# Altium footprint library QFN.PcbLib: 46 footprints (part 1 of 3)
Each footprint in its own frame and in the unit in brackets; x right, y up, seen from the top. Pads: shape width x height; smd on the part's side, far side on the other; paste and mask are expansions set on the pad; w line width, h text height; cw(c..) or ccw(c..) is an arc to the next point about the centre after c.
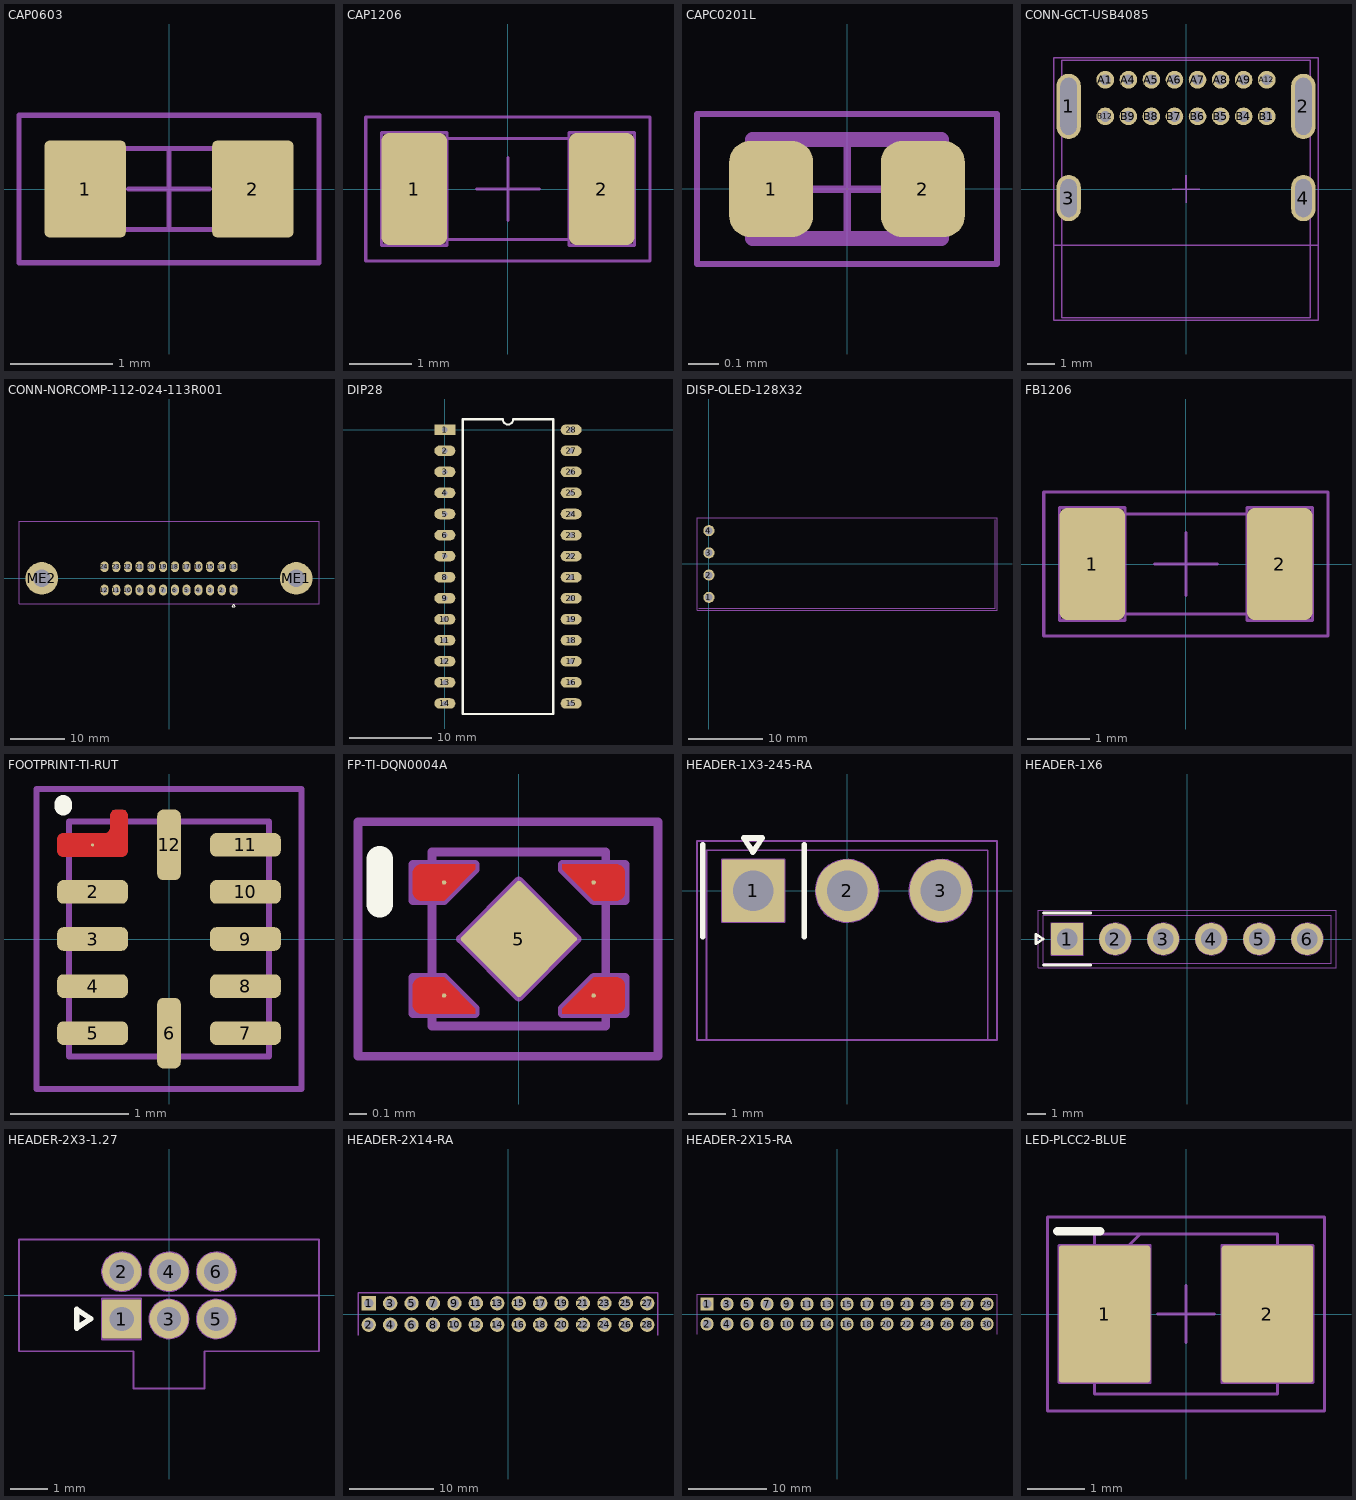
[diagram p0: the footprints below, top view; thin cyan lines are the x and y axes]

## CAP0603 [mm] "Chip Capacitor, 2-Leads, Body 1.60x0.80mm, IPC Medium Density"
height 0.8
pads (2):
  rrect12% 0.8x0.95 smd mask+0.05: 1(-0.825,0) 2(0.825,0)
Top Courtyard:
  lines w0.05: -0.4,0 0.4,0 ; 0,-0.4 0,0.4 ; -1.475,-0.725 -1.475,0.725 1.475,0.725 1.475,-0.725 -1.475,-0.725
Top Assembly:
  lines w0.05: -0.8,-0.4 -0.8,0.4 0.8,0.4 0.8,-0.4 -0.8,-0.4
3D body "CAPCP1608X08N.step": height 0.8, standoff 0, extent -0.8,-0.4 0.8,0.4

## CAP1206 [mm] "CAPACITOR, CHIP 1206 (3216) 0.85MM THICK"
height 0.86
pads (2):
  rrect25% 1.05x1.8 smd paste+0 mask+0.075: 1(-1.5,0) 2(1.5,0)
Top Courtyard:
  lines w0.05: -0.5,0 0,0 ; 0,-0.5 0,0 ; 0,0.5 0,0 ; 0.5,0 0,0 ; -2.275,-1.15 2.275,-1.15 2.275,1.15 -2.275,1.15 -2.275,-1.15
Top Assembly:
  lines w0.05: -2.025,-0.9 -0.975,-0.9 -0.975,0.9 -2.025,0.9 -2.025,-0.9 ; -1.61,-0.81 1.61,-0.81 1.61,0.81 -1.61,0.81 -1.61,-0.81 ; 0.975,-0.9 2.025,-0.9 2.025,0.9 0.975,0.9 0.975,-0.9
3D body "MLCC capacitor 1206 - 0.85mm .STEP": height 0.86, standoff -0.01, extent -1.61,-0.81 1.61,0.81

## CAPC0201L [mm]
height 0.55
pads (2):
  rrect50% 0.28x0.32 smd mask+0.05: 1(-0.253,0) 2(0.253,0)
Top Courtyard:
  lines w0.02: -0.5,-0.25 -0.5,0.25 0.5,0.25 0.5,-0.25 -0.5,-0.25
  lines w0.025: -0.165,0 0.165,0 ; 0,-0.165 0,0.165
Top Assembly:
  lines w0.05: -0.315,-0.165 0.315,-0.165 0.315,0.165 -0.315,0.165 -0.315,-0.165
3D body "CAPC0603X03L.step": height 0.33, standoff 0, extent -0.315,-0.165 0.315,0.165

## CONN-GCT-USB4085 [mm]
pads (20):
  rrect100% 0.9x2.4 hole 2.1 slot 0.6 at 0 deg paste-2539.97 mask+0: 1(-4.325,3.045) 2(4.325,3.045)
  rrect100% 0.9x1.7 hole 1.4 slot 0.6 at 0 deg paste-2539.97 mask+0: 3(-4.325,-0.335) 4(4.325,-0.335)
  round 0.65 hole 0.4 paste-2539.97 mask+0: A1(-2.975,4.025) A4(-2.125,4.025) A5(-1.275,4.025) A6(-0.425,4.025) A7(0.425,4.025) A8(1.275,4.025) A9(2.125,4.025) A12(2.975,4.025) B1(2.975,2.675) B4(2.125,2.675) B5(1.275,2.675) B6(0.425,2.675) B7(-0.425,2.675) B8(-1.275,2.675) B9(-2.125,2.675) B12(-2.975,2.675)
Top Courtyard:
  lines w0.05: -0.491,-0.009 0.009,-0.009 0.009,-0.509 ; 0,0.5 0,0 0.5,0 ; -4.875,-4.835 4.875,-4.835 4.875,4.835 -4.875,4.835 -4.875,-4.835
Bottom Courtyard:
  lines w0.05: -4.875,-4.835 4.875,-4.835 4.875,4.835 -4.875,4.835 -4.875,-4.835
Top Assembly:
  lines w0.05: -4.875,-2.075 4.875,-2.075 ; -4.575,-4.735 4.575,-4.735 4.575,4.735 -4.575,4.735 -4.575,-4.735
Mechanical 16:
  lines w0.05: -0.5,0 0.5,0 ; 0,-0.5 0,0.5
3D body "Conn_GCT_USB4085-GF-A_eec.STEP": height 0.25, standoff 0, extent -4.875,-4.835 4.875,4.835

## CONN-NORCOMP-112-024-113R001 [mm] "GPIB MALE RA"
pads (26):
  oval 1.5x2 hole 1 paste-2539.97 mask+0.05: 1(11.874,-2.146) 2(9.716,-2.146) 3(7.556,-2.146) 4(5.397,-2.146) 5(3.238,-2.146) 6(1.079,-2.146) 7(-1.079,-2.146) 8(-3.238,-2.146) 9(-5.397,-2.146) 10(-7.556,-2.146) 11(-9.716,-2.146) 12(-11.874,-2.146) 13(11.874,2.146) 14(9.716,2.146) 15(7.556,2.146) 16(5.397,2.146) 17(3.238,2.146) 18(1.079,2.146) 19(-1.079,2.146) 20(-3.238,2.146) 21(-5.397,2.146) 22(-7.556,2.146) 23(-9.716,2.146) 24(-11.874,2.146)
  round 6 hole 3.2 paste-2539.97 mask+0.254: ME1(23.406,0) ME2(-23.406,0)
Top Overlay:
  lines w0.15: 11.625,-5.25 12.125,-5.25 11.875,-4.75 11.625,-5.25
Top Courtyard:
  lines w0.05: -27.6,-4.65 27.6,-4.65 27.6,10.541 -27.6,10.541 -27.6,-4.65
  text "BOARD EDGE" at -4.29,9.26 h1
3D body "112-024-113R001.STEP": height 15.61, standoff -4.49, extent -27.356,-4.4 27.344,20

## DIP28 [mm]
pads (28):
  rect 2.54x1.27 hole 0.635: 1(0,0)
  oval 2.54x1.27 hole 0.635: 2(0,-2.54) 3(0,-5.08) 4(0,-7.62) 5(0,-10.16) 6(0,-12.7) 7(0,-15.24) 8(0,-17.78) 9(0,-20.32) 10(0,-22.86) 11(0,-25.4) 12(0,-27.94) 13(0,-30.48) 14(0,-33.02) 15(15.24,-33.02) 16(15.24,-30.48) 17(15.24,-27.94) 18(15.24,-25.4) 19(15.24,-22.86) 20(15.24,-20.32) 21(15.24,-17.78) 22(15.24,-15.24) 23(15.24,-12.7) 24(15.24,-10.16) 25(15.24,-7.62) 26(15.24,-5.08) 27(15.24,-2.54) 28(15.24,0)
Top Overlay:
  lines w0.254: 2.159,-34.29 13.081,-34.29 13.081,1.27 8.255,1.27 cw(c7.62,1.27) 6.985,1.27 2.159,1.27 2.159,-34.29

## DISP-OLED-128X32 [mm]
pads (4):
  round 1.5 hole 1 mask+0.05: 1(0,-4.5) 2(0,-1.5) 3(0,1.5) 4(0,4.5)
Top Courtyard:
  lines w0.05: -1.605,-6.253 38.895,-6.253 38.895,6.247 -1.605,6.247 -1.605,-6.253
Top Assembly:
  lines w0.05: 38.638,-6 -1.362,-6 38.638,-6 ; 38.638,-6 38.638,6 38.638,-6
3D body "User Library-OLED 32x 128.STEP": height 5.46, standoff -3.5, extent -1.362,-6 38.638,6

## FB1206 [mm] "FERRITE BEAD, CHIP 1206 (3216)"
height 1.3
pads (2):
  rrect25% 1.05x1.8 smd paste+0 mask+0.075: 1(-1.5,0) 2(1.5,0)
Top Courtyard:
  lines w0.05: -0.5,0 0,0 ; 0,-0.5 0,0 ; 0,0.5 0,0 ; 0.5,0 0,0 ; -2.275,-1.15 -2.275,1.15 2.275,1.15 2.275,-1.15 -2.275,-1.15
Top Assembly:
  lines w0.05: -2.025,-0.9 -2.025,0.9 -0.975,0.9 -0.975,-0.9 -2.025,-0.9 ; -1.6,-0.8 -1.6,0.8 1.6,0.8 1.6,-0.8 -1.6,-0.8 ; 0.975,-0.9 0.975,0.9 2.025,0.9 2.025,-0.9 0.975,-0.9
3D body "Chip Inductor 3216.STEP": height 1.3, standoff 0, extent -1.6,-0.8 1.6,0.8

## FOOTPRINT-TI-RUT [mm] "R-PUQFN-N12, TI RUT"
pads (12):
  round 0.025 smd paste+0 mask+0.05: 1(-0.65,0.8)
  rrect50% 0.6x0.2 smd paste+0 mask+0.05: 2(-0.65,0.4) 3(-0.65,0) 4(-0.65,-0.4) 5(-0.65,-0.8) 7(0.65,-0.8) 8(0.65,-0.4) 9(0.65,0) 10(0.65,0.4) 11(0.65,0.8)
  rrect50% 0.2x0.6 smd paste+0 mask+0.05: 6(0,-0.8) 12(0,0.8)
Top Layer:
  region: -0.9,0.9 -0.91,0.9 -0.928,0.892 -0.942,0.878 -0.95,0.86 -0.95,0.85 -0.95,0.75 -0.95,0.74 -0.942,0.722 -0.929,0.708 -0.91,0.7 -0.9,0.7 -0.4,0.7 -0.39,0.7 -0.372,0.708 -0.358,0.722 -0.35,0.74 -0.35,0.75 -0.35,1.05 -0.35,1.06 -0.358,1.078 -0.372,1.092 -0.39,1.1 -0.4,1.1 -0.45,1.1 -0.46,1.1 -0.478,1.092 -0.492,1.078 -0.5,1.06 -0.5,1.05 -0.5,0.95 -0.501,0.94 -0.508,0.922 -0.522,0.908 -0.54,0.901 -0.55,0.9
Top Overlay:
  lines w0.15: -0.9,1.125 -0.9,1.15
Top Paste:
  region: -0.35,0.901 -0.501,0.901 -0.501,1.05 -0.35,1.05
  region: 0.1,-1.051 -0.1,-1.051 -0.1,-0.55 0.1,-0.55
  region: 0.9,-0.901 0.4,-0.901 0.4,-0.7 0.9,-0.7
  region: 0.9,-0.5 0.4,-0.5 0.4,-0.3 0.9,-0.3
  region: 0.9,-0.1 0.401,-0.1 0.401,0.1 0.9,0.1
  region: 0.9,0.3 0.4,0.3 0.4,0.5 0.9,0.5
  region: 0.9,0.701 0.4,0.701 0.4,0.9 0.9,0.9
  region: 0.1,0.55 -0.1,0.55 -0.1,1.05 0.1,1.05
  region: -0.4,-0.9 -0.9,-0.9 -0.9,-0.7 -0.4,-0.7
  region: -0.4,-0.5 -0.901,-0.5 -0.901,-0.3 -0.4,-0.3
  region: -0.4,-0.1 -0.9,-0.1 -0.9,0.1 -0.4,0.1
  region: -0.4,0.3 -0.901,0.3 -0.901,0.5 -0.4,0.5
  region: -0.4,0.7 -0.9,0.7 -0.9,0.9 -0.4,0.9
Top Courtyard:
  lines w0.05: -1.125,-1.275 1.125,-1.275 1.125,1.275 -1.125,1.275 -1.125,-1.275
Top Assembly:
  lines w0.05: -0.85,-1 0.85,-1 0.85,1 -0.85,1 -0.85,-1
3D body "step_temp.STEP": height 0.55, standoff 0, extent -0.85,-1 0.85,1

## FP-TI-DQN0004A [mm] "FOOTPRINT, TI, DQN0004A X2SON4"
height 1.1
pads (5):
  round 0.025 smd mask+0.05: 1(-0.43,0.325) 2(-0.43,-0.325) 3(0.43,-0.325) 4(0.43,0.325)
  rrect4% 0.48x0.48 smd rot 45 mask+0.05: 5(0,0)
Top Layer:
  region: 0.43,-0.22 0.25,-0.4 0.25,-0.43 0.559,-0.43 0.569,-0.43 0.588,-0.422 0.602,-0.408 0.61,-0.389 0.61,-0.379 0.61,-0.271 0.61,-0.261 0.602,-0.242 0.588,-0.228 0.569,-0.22 0.559,-0.22 0.52,-0.22
  region: -0.43,-0.22 -0.25,-0.4 -0.25,-0.43 -0.559,-0.43 -0.569,-0.43 -0.588,-0.422 -0.602,-0.408 -0.61,-0.389 -0.61,-0.379 -0.61,-0.271 -0.61,-0.261 -0.602,-0.242 -0.588,-0.228 -0.569,-0.22 -0.559,-0.22 -0.52,-0.22
  region: -0.43,0.22 -0.25,0.4 -0.25,0.43 -0.559,0.43 -0.569,0.43 -0.588,0.422 -0.602,0.408 -0.61,0.389 -0.61,0.379 -0.61,0.271 -0.61,0.261 -0.602,0.242 -0.588,0.228 -0.569,0.22 -0.559,0.22 -0.52,0.22
  region: 0.43,0.22 0.25,0.4 0.25,0.43 0.559,0.43 0.569,0.43 0.588,0.422 0.602,0.408 0.61,0.389 0.61,0.379 0.61,0.271 0.61,0.261 0.602,0.242 0.588,0.228 0.569,0.22 0.559,0.22 0.52,0.22
Top Overlay:
  lines w0.15: -0.8,0.2 -0.8,0.46
Top Courtyard:
  lines w0.05: -0.925,-0.675 0.8,-0.675 0.8,0.675 -0.925,0.675 -0.925,-0.675
Top Assembly:
  region: -0.25,0.43 -0.43,0.43 -0.43,0.22 -0.25,0.4
  lines w0.05: -0.559,0.43 -0.5,0.43 -0.5,0.5 0.5,0.5 0.5,-0.5 -0.5,-0.5 -0.5,0.22 -0.43,0.22 ; -0.43,0.22 -0.61,0.22 -0.61,0.43 -0.25,0.43 -0.25,0.4 -0.43,0.22 ; -0.61,-0.43 -0.61,-0.22 -0.43,-0.22 -0.25,-0.4 -0.25,-0.43 -0.61,-0.43 ; -0.335,0 0,-0.335 0.335,0 0,0.335 -0.335,0 ; 0.25,-0.43 0.61,-0.43 0.61,-0.22 0.43,-0.22 0.25,-0.4 0.25,-0.43 ; 0.25,0.4 0.43,0.22 0.61,0.22 0.61,0.43 0.25,0.43 0.25,0.4
  text "1" at -0.61,0.225 h0.3
3D body: height 0.4, standoff 0, extent -0.5,-0.5 0.5,0.5

## HEADER-1X3-245-RA [mm]
pads (3):
  rrect5% 1.7x1.7 hole 1.1 mask+0.05: 1(-2.54,0)
  round 1.7 hole 1.1 mask+0.05: 2(0,0) 3(2.54,0)
Top Overlay:
  lines w0.15: -3.915,-1.25 -3.915,0 -3.915,1.25 ; -1.165,-1.25 -1.165,0 -1.165,1.25 ; -2.8,1.43 -2.55,1.05 -2.3,1.43 -2.8,1.43
Top Courtyard:
  lines w0.05: -4.065,-4.04 4.06,-4.04 4.06,1.35 -4.065,1.35 -4.065,-4.04
Top Assembly:
  circle w0.05: c-2.54,0 r0.551
  circle w0.05: c0,0 r0.85
  circle w0.05: c0,0 r0.535
  circle w0.05: c2.54,0 r0.85
  circle w0.05: c2.54,0 r0.535
  lines w0.05: -3.81,-4.04 -3.81,1.1 3.81,1.1 3.81,-4.04 -3.81,-4.04 ; -3.39,-0.85 -3.39,0.85 -2.54,0.85 -1.69,0.85 -1.69,-0.85 -3.39,-0.85
3D body "61300311021_Download_STP_61300311021_rev1.stp": height 2.55, standoff -2.99, extent -3.81,-10.04 3.81,0.32

## HEADER-1X6 [mm]
pads (6):
  rrect5% 1.7x1.7 hole 1.1 mask+0.05: 1(-6.35,0)
  round 1.7 hole 1.1 mask+0.05: 2(-3.81,0) 3(-1.27,0) 4(1.27,0) 5(3.81,0) 6(6.35,0)
Top Overlay:
  lines w0.15: -7.6,-1.375 -6.35,-1.375 -5.1,-1.375 ; -7.6,1.375 -6.35,1.375 -5.1,1.375 ; -8,-0.25 -8,0.25 -7.62,0 -8,-0.25
Top Courtyard:
  lines w0.05: -7.875,-1.525 -7.875,1.525 7.875,1.525 7.875,-1.525 -7.875,-1.525
Top Assembly:
  circle w0.05: c6.35,0 r0.535
  circle w0.05: c6.35,0 r0.85
  circle w0.05: c3.81,0 r0.535
  circle w0.05: c3.81,0 r0.85
  circle w0.05: c1.27,0 r0.535
  circle w0.05: c1.27,0 r0.85
  circle w0.05: c-1.27,0 r0.535
  circle w0.05: c-1.27,0 r0.85
  circle w0.05: c-3.81,0 r0.535
  circle w0.05: c-3.81,0 r0.85
  circle w0.05: c-6.35,0 r0.551
  lines w0.05: -7.62,-1.27 7.62,-1.27 7.62,1.27 -7.62,1.27 -7.62,-1.27 ; -7.2,-0.85 -5.5,-0.85 -5.5,0.85 -6.35,0.85 -7.2,0.85 -7.2,-0.85
3D body "61300611121_Download_STP_61300611121_rev1.stp": height 8.55, standoff -2.99, extent -7.62,-1.27 7.62,1.27

## HEADER-2X3-1.27 [mm]
pads (6):
  rrect9% 1.05x1.05 hole 0.65 mask+0.05: 1(-1.27,-0.635)
  round 1.05 hole 0.65 mask+0.05: 2(-1.27,0.635) 3(0,-0.635) 4(0,0.635) 5(1.27,-0.635) 6(1.27,0.635)
Top Overlay:
  lines w0.15: -2.48,-0.875 -2.1,-0.625 -2.48,-0.375 -2.48,-0.875
Top Courtyard:
  lines w0.05: -4.025,0 -4.025,1.5 4.025,1.5 4.025,0 ; -4.025,0 0,0 4.025,0 ; -4.025,0 -4.025,-1.5 -0.95,-1.5 -0.95,-2.5 0.95,-2.5 0.95,-1.5 4.025,-1.5 4.025,0
Top Assembly:
  circle w0.05: c1.27,-0.635 r0.32
  circle w0.05: c1.27,0.635 r0.32
  circle w0.05: c0,0.635 r0.32
  circle w0.05: c0,-0.635 r0.32
  circle w0.05: c-1.27,-0.635 r0.32
  circle w0.05: c-1.27,0.635 r0.32
  circle w0.05: c-1.27,0.635 r0.526
  circle w0.05: c0,0.635 r0.526
  circle w0.05: c1.27,0.635 r0.525
  circle w0.05: c1.27,-0.635 r0.525
  circle w0.05: c0,-0.635 r0.525
  lines w0.05: -1.795,-1.185 -0.745,-1.185 -0.745,-0.085 -1.27,-0.085 -1.795,-0.085 -1.795,-1.185
3D body "HPH2-A-06-UA.STEP": height 3.81, standoff -2.49, extent -1.905,-1.725 1.905,1.725

## HEADER-2X14-RA [mm]
pads (28):
  rrect5% 1.7x1.7 hole 1.1 mask+0.05: 1(-16.51,1.27)
  round 1.7 hole 1.1 mask+0.05: 2(-16.51,-1.27) 3(-13.97,1.27) 4(-13.97,-1.27) 5(-11.43,1.27) 6(-11.43,-1.27) 7(-8.89,1.27) 8(-8.89,-1.27) 9(-6.35,1.27) 10(-6.35,-1.27) 11(-3.81,1.27) 12(-3.81,-1.27) 13(-1.27,1.27) 14(-1.27,-1.27) 15(1.27,1.27) 16(1.27,-1.27) 17(3.81,1.27) 18(3.81,-1.27) 19(6.35,1.27) 20(6.35,-1.27) 21(8.89,1.27) 22(8.89,-1.27) 23(11.43,1.27) 24(11.43,-1.27) 25(13.97,1.27) 26(13.97,-1.27) 27(16.51,1.27) 28(16.51,-1.27)
Top Assembly:
  lines w0.15: -17.78,-2.54 -17.78,2.54 17.78,2.54 17.78,-2.54

## HEADER-2X15-RA [mm]
pads (30):
  rrect5% 1.7x1.7 hole 1.1 mask+0.05: 1(-16.51,1.27)
  round 1.7 hole 1.1 mask+0.05: 2(-16.51,-1.27) 3(-13.97,1.27) 4(-13.97,-1.27) 5(-11.43,1.27) 6(-11.43,-1.27) 7(-8.89,1.27) 8(-8.89,-1.27) 9(-6.35,1.27) 10(-6.35,-1.27) 11(-3.81,1.27) 12(-3.81,-1.27) 13(-1.27,1.27) 14(-1.27,-1.27) 15(1.27,1.27) 16(1.27,-1.27) 17(3.81,1.27) 18(3.81,-1.27) 19(6.35,1.27) 20(6.35,-1.27) 21(8.89,1.27) 22(8.89,-1.27) 23(11.43,1.27) 24(11.43,-1.27) 25(13.97,1.27) 26(13.97,-1.27) 27(16.51,1.27) 28(16.51,-1.27) 29(19.05,1.27) 30(19.05,-1.27)
Top Assembly:
  lines w0.15: -17.78,-2.54 -17.78,2.54 20.32,2.54 20.32,-2.54

## LED-PLCC2-BLUE [mm] "SMD Mono-color TOP LED, body 3.2x2.8mm"
height 1.9
pads (2):
  rrect6% 1.6x2.4 smd mask+0.05: 1(-1.425,0) 2(1.425,0)
Top Overlay:
  lines w0.15: -2.25,1.45 -1.5,1.45
Top Courtyard:
  lines w0.05: -0.5,0 0.5,0 ; 0,-0.5 0,0.5 ; -2.425,-1.7 2.425,-1.7 2.425,1.7 -2.425,1.7 -2.425,-1.7
Top Assembly:
  lines w0.05: -1.6,0.6 -0.8,1.4 ; -2.225,-1.2 -0.625,-1.2 -0.625,1.2 -1.425,1.2 -2.225,1.2 -2.225,-1.2 ; -1.6,-1.4 1.6,-1.4 1.6,1.4 -1.6,1.4 -1.6,-1.4 ; 0.625,-1.2 2.225,-1.2 2.225,1.2 1.425,1.2 0.625,1.2 0.625,0 0.625,-1.2
  text "K" at -2.225,-1.185 h2
3D body: height 1.27, standoff 0, extent -1,-1 1,1
3D body "150141xxx73113.stp": height 1.9, standoff 0, extent -1.75,-1.4 1.75,1.4